# Altium footprint library QFP_Thin_Sq_50P_Side_V.PcbLib: 1 footprints
Each footprint in its own frame and in the unit in brackets; x right, y up, seen from the top. Pads: shape width x height; smd on the part's side, far side on the other; paste and mask are expansions set on the pad; w line width, h text height; cw(c..) or ccw(c..) is an arc to the next point about the centre after c.
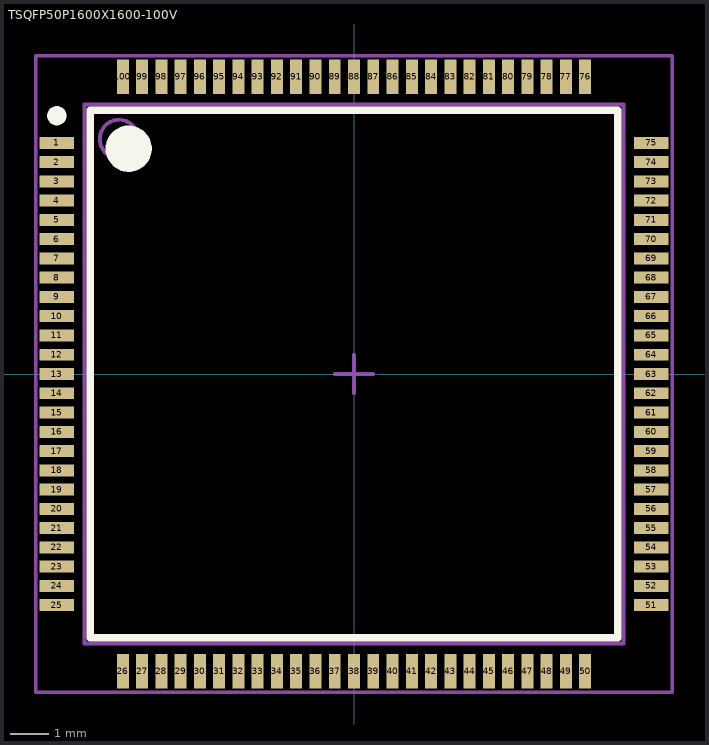
[diagram p0: the footprint, top view; thin cyan lines are the x and y axes]

## TSQFP50P1600X1600-100V [mm] "Thin QFP, 100-Leads, Body 14x14mm, Pitch 0.5mm, AD Recommended"
height 1.6
pads (100):
  rect 0.89x0.31 smd: 1(-7.715,6) 2(-7.715,5.5) 3(-7.715,5) 4(-7.715,4.5) 5(-7.715,4) 6(-7.715,3.5) 7(-7.715,3) 8(-7.715,2.5) 9(-7.715,2) 10(-7.715,1.5) 11(-7.715,1) 12(-7.715,0.5) 13(-7.715,0) 14(-7.715,-0.5) 15(-7.715,-1) 16(-7.715,-1.5) 17(-7.715,-2) 18(-7.715,-2.5) 19(-7.715,-3) 20(-7.715,-3.5) 21(-7.715,-4) 22(-7.715,-4.5) 23(-7.715,-5) 24(-7.715,-5.5) 25(-7.715,-6) 51(7.715,-6) 52(7.715,-5.5) 53(7.715,-5) 54(7.715,-4.5) 55(7.715,-4) 56(7.715,-3.5) 57(7.715,-3) 58(7.715,-2.5) 59(7.715,-2) 60(7.715,-1.5) 61(7.715,-1) 62(7.715,-0.5) 63(7.715,0) 64(7.715,0.5) 65(7.715,1) 66(7.715,1.5) 67(7.715,2) 68(7.715,2.5) 69(7.715,3) 70(7.715,3.5) 71(7.715,4) 72(7.715,4.5) 73(7.715,5) 74(7.715,5.5) 75(7.715,6)
  rect 0.31x0.89 smd: 26(-6,-7.715) 27(-5.5,-7.715) 28(-5,-7.715) 29(-4.5,-7.715) 30(-4,-7.715) 31(-3.5,-7.715) 32(-3,-7.715) 33(-2.5,-7.715) 34(-2,-7.715) 35(-1.5,-7.715) 36(-1,-7.715) 37(-0.5,-7.715) 38(0,-7.715) 39(0.5,-7.715) 40(1,-7.715) 41(1.5,-7.715) 42(2,-7.715) 43(2.5,-7.715) 44(3,-7.715) 45(3.5,-7.715) 46(4,-7.715) 47(4.5,-7.715) 48(5,-7.715) 49(5.5,-7.715) 50(6,-7.715) 76(6,7.715) 77(5.5,7.715) 78(5,7.715) 79(4.5,7.715) 80(4,7.715) 81(3.5,7.715) 82(3,7.715) 83(2.5,7.715) 84(2,7.715) 85(1.5,7.715) 86(1,7.715) 87(0.5,7.715) 88(0,7.715) 89(-0.5,7.715) 90(-1,7.715) 91(-1.5,7.715) 92(-2,7.715) 93(-2.5,7.715) 94(-3,7.715) 95(-3.5,7.715) 96(-4,7.715) 97(-4.5,7.715) 98(-5,7.715) 99(-5.5,7.715) 100(-6,7.715)
Top Overlay:
  circle w0.6: c-5.85,5.85 r0.3
  circle w0.25: c-7.715,6.705 r0.125
  lines w0.2: -6.85,-6.85 6.85,-6.85 6.85,6.85 -6.85,6.85 -6.85,-6.85
Mechanical 13:
  circle w0.1: c-6.1,6.1 r0.5
  lines w0.1: -7,-7 7,-7 7,7 -7,7 -7,-7
Mechanical 15:
  lines w0.1: -0.5,0 0.5,0 ; 0,-0.5 0,0.5 ; -8.26,-8.26 8.26,-8.26 8.26,8.26 -8.26,8.26 -8.26,-8.26
3D body: height 1.6, standoff 0, extent -7,-7 7,7